# Altium footprint library Relay_Footprints.PcbLib: 1 footprints
Each footprint in its own frame and in the unit in brackets; x right, y up, seen from the top. Pads: shape width x height; smd on the part's side, far side on the other; paste and mask are expansions set on the pad; w line width, h text height; cw(c..) or ccw(c..) is an arc to the next point about the centre after c.
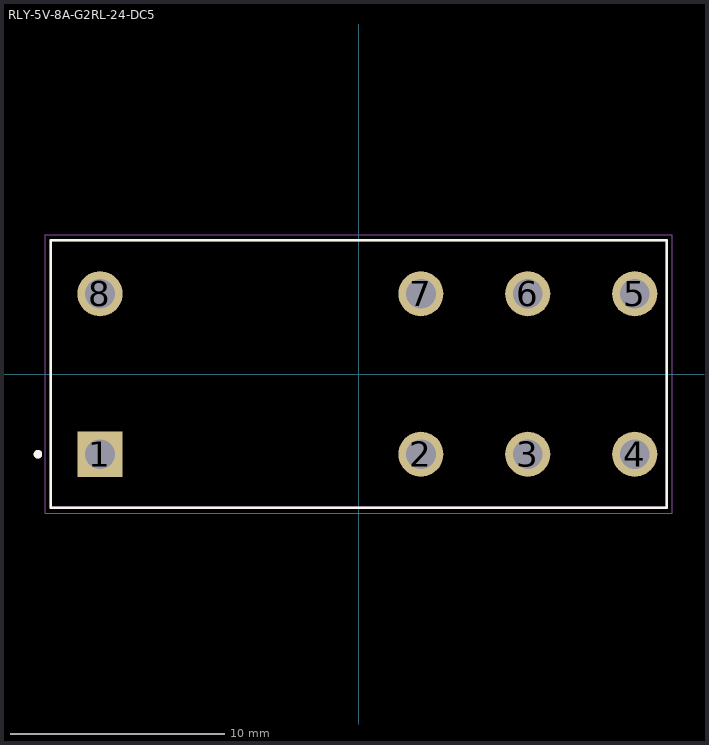
[diagram p0: the footprint, top view; thin cyan lines are the x and y axes]

## RLY-5V-8A-G2RL-24-DC5 [mil]
height 618.11
pads (8):
  rect 83x83 / inner round 83 / far side rect 83x83 hole 55: 1(-476.38,-147.64)
  round 83 hole 55: 2(114.17,-147.64) 3(311.02,-147.64) 4(507.87,-147.64) 5(507.87,147.64) 6(311.02,147.64) 7(114.17,147.64) 8(-476.38,147.64)
Top Overlay:
  circle w7.87: c-590.55,-147.64 r3.94
  lines w5: -566.93,-246.06 -566.93,246.06 566.93,246.06 566.93,-246.06 -566.93,-246.06
Mechanical 13:
  circle w7.87: c-590.55,-147.64 r3.94
  lines w5: -566.93,-246.06 -566.93,246.06 566.93,246.06 566.93,-246.06 -566.93,-246.06
Mechanical 15:
  lines w1.97: -576.77,-255.91 -576.77,255.91 576.77,255.91 576.77,-255.91 -576.77,-255.91
3D body "Relay_DPDT_Omron_G2RL.step": height 618.11, standoff -137.8, extent -565.55,-248.43 568.31,243.7